# Altium footprint library SOT353.PcbLib: 1 footprints
Each footprint in its own frame and in the unit in brackets; x right, y up, seen from the top. Pads: shape width x height; smd on the part's side, far side on the other; paste and mask are expansions set on the pad; w line width, h text height; cw(c..) or ccw(c..) is an arc to the next point about the centre after c.
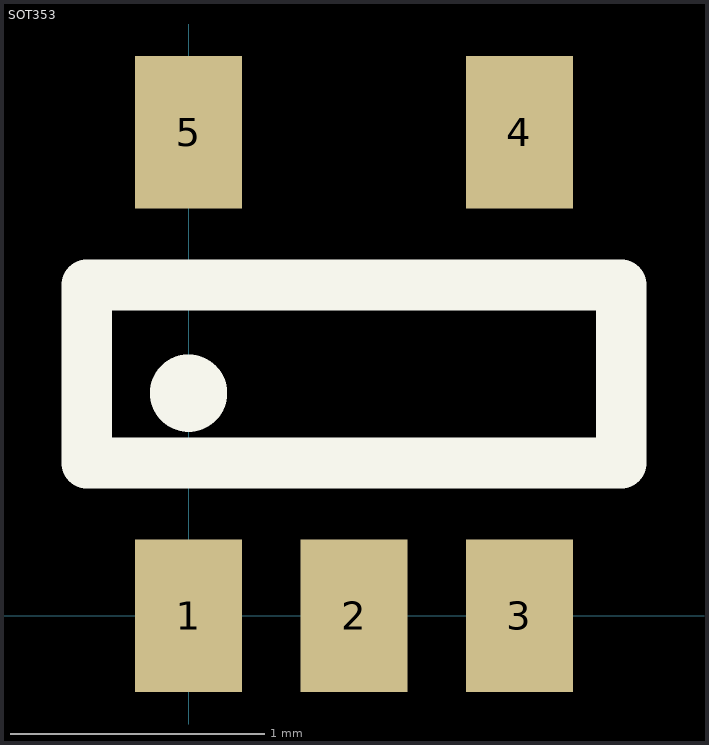
[diagram p0: the footprint, top view; thin cyan lines are the x and y axes]

## SOT353 [mm]
pads (5):
  rect 0.42x0.6 smd: 1(0,0) 2(0.65,0) 3(1.3,0) 4(1.3,1.9) 5(0,1.9)
Top Overlay:
  circle w0.254: c0,0.875 r0.025
  lines w0.2: -0.4,0.6 -0.4,1.3 1.7,1.3 1.7,0.6 -0.4,0.6
3D body: height 1, standoff 0, extent -0.4,-0.2 1.7,2.1